# EAGLE library part TPS563200DDCR (library TPS563200DDCR)
17 V Input, 3A Synchronous Step-Down Regulator in SOT-23 with Advanced Eco-mode Source: Datasheet <http://www.ti.com/lit/gpn/TPS563200>
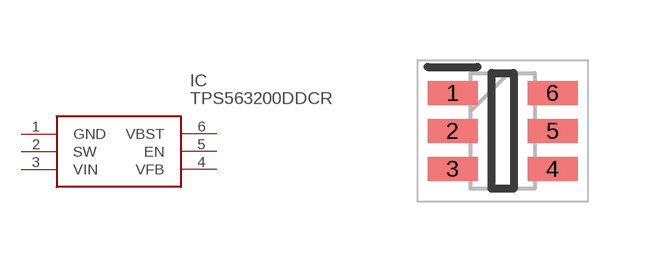
[diagram p0: symbol with the pads of SOT95P280X110-6N; footprint SOT95P280X110-6N]

Designator prefix IC

## TPS563200DDCR (Arrow_Part_Number: TPS563200DDCR; Arrow_Price-Stock: https://www.arrow.com/en/products/tps563200ddcr/texas-instruments.html?utm_currency=USD&region=europe; Description: 17 V Input, 3A Synchronous Step-Down Regulator in SOT-23 with Advanced Eco-mode; Height: 1.1mm; Manufacturer_Name: Texas Instruments; Manufacturer_Part_Number: TPS563200DDCR; Mouser_Part_Number: 595-TPS563200DDCR; Mouser_Price-Stock: https://www.mouser.co.uk/ProductDetail/Texas-Instruments/TPS563200DDCR?qs=bT6MOr62zwLjxJIF4PA64g%3D%3D)  [SOT95P280X110-6N]
1  GND  pwr
2  SW
3  VIN  pwr
4  VFB  in
5  EN  in
6  VBST

## Footprint SOT95P280X110-6N (pad centres in mm)
TPS563200
smd 1.25 x 0.6: 1 -1.25,0.95; 2 -1.25,0; 3 -1.25,-0.95; 4 1.25,-0.95; 5 1.25,0; 6 1.25,0.95